# EAGLE library part MCP23018 (library microchip)
I/O Expander I2C Interface
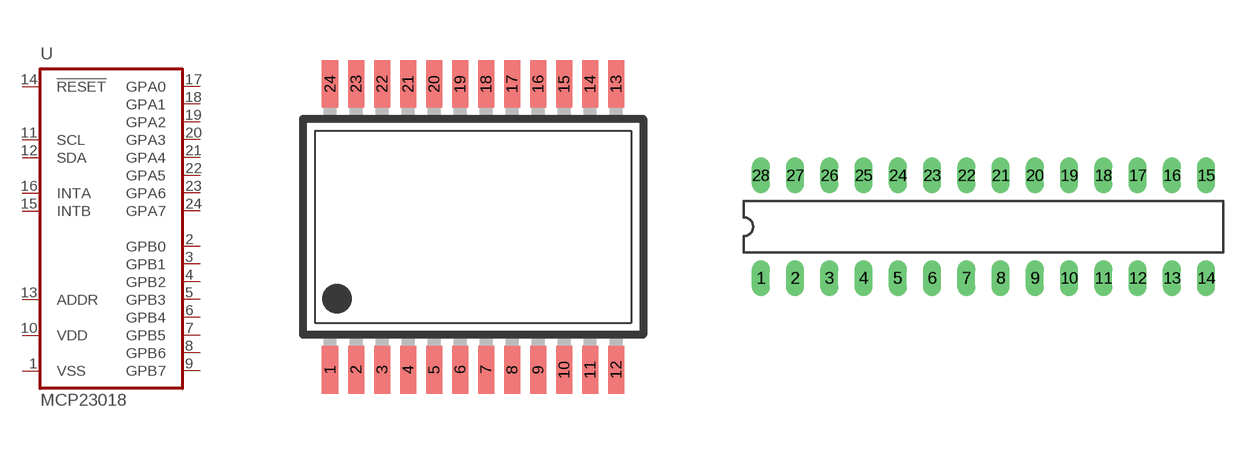
[diagram p135: symbol with the pads of SSOP24W; footprints SSOP24W, DIL28-3]

Designator prefix U

## MCP23018SS  [SSOP24W]
1  VSS  pwr
2  GPB0
3  GPB1
4  GPB2
5  GPB3
6  GPB4
7  GPB5
8  GPB6
9  GPB7
10  VDD  pwr
11  SCL  in
12  SDA  oc
13  ADDR  in
14  !RESET  in
15  INTB  out
16  INTA  out
17  GPA0
18  GPA1
19  GPA2
20  GPA3
21  GPA4
22  GPA5
23  GPA6
24  GPA7

## MCP23018SP  [DIL28-3]
1  VSS  pwr
3  GPB0
4  GPB1
5  GPB2
6  GPB3
7  GPB4
8  GPB5
9  GPB6
10  GPB7
11  VDD  pwr
12  SCL  in
13  SDA  oc
15  ADDR  in
16  !RESET  in
18  INTB  out
19  INTA  out
20  GPA0
21  GPA1
22  GPA2
23  GPA3
24  GPA4
25  GPA5
26  GPA6
27  GPA7

## MCP23018SO  [SO28W]
Pads as for DIL28-3

## Footprint SSOP24W (pad centres in mm)
Small Shrink Outline Package JDEC MO-150, 5.3 mm body
smd 0.4 x 1.2: 1 -3.575,-3.575; 2 -2.925,-3.575; 3 -2.275,-3.575; 4 -1.625,-3.575; 5 -0.975,-3.575; 6 -0.325,-3.575; 7 0.325,-3.575; 8 0.975,-3.575; 9 1.625,-3.575; 10 2.275,-3.575; 11 2.925,-3.575; 12 3.575,-3.575; 13 3.575,3.575; 14 2.925,3.575; 15 2.275,3.575; 16 1.625,3.575; 17 0.975,3.575; 18 0.325,3.575; 19 -0.325,3.575; 20 -0.975,3.575; 21 -1.625,3.575; 22 -2.275,3.575; 23 -2.925,3.575; 24 -3.575,3.575

## Footprint DIL28-3 (pad centres in mm)
Dual In Line Package Small
drill 0.813 long: 1 -16.51,-3.81; 2 -13.97,-3.81; 3 -11.43,-3.81; 4 -8.89,-3.81; 5 -6.35,-3.81; 6 -3.81,-3.81; 7 -1.27,-3.81; 8 1.27,-3.81; 9 3.81,-3.81; 10 6.35,-3.81; 11 8.89,-3.81; 12 11.43,-3.81; 13 13.97,-3.81; 14 16.51,-3.81; 15 16.51,3.81; 16 13.97,3.81; 17 11.43,3.81; 18 8.89,3.81; 19 6.35,3.81; 20 3.81,3.81; 21 1.27,3.81; 22 -1.27,3.81; 23 -3.81,3.81; 24 -6.35,3.81; 25 -8.89,3.81; 26 -11.43,3.81; 27 -13.97,3.81; 28 -16.51,3.81

## Footprint SO28W (pad centres in mm)
SMALL OUTLINE INTEGRATED CIRCUIT wide body 7.5 mm/JEDEC MO-119AB
smd 0.6 x 2.2: 1 -8.255,-4.6; 2 -6.985,-4.6; 3 -5.715,-4.6; 4 -4.445,-4.6; 5 -3.175,-4.6; 6 -1.905,-4.6; 7 -0.635,-4.6; 8 0.635,-4.6; 9 1.905,-4.6; 10 3.175,-4.6; 11 4.445,-4.6; 12 5.715,-4.6; 13 6.985,-4.6; 14 8.255,-4.6; 15 8.255,4.6; 16 6.985,4.6; 17 5.715,4.6; 18 4.445,4.6; 19 3.175,4.6; 20 1.905,4.6; 21 0.635,4.6; 22 -0.635,4.6; 23 -1.905,4.6; 24 -3.175,4.6; 25 -4.445,4.6; 26 -5.715,4.6; 27 -6.985,4.6; 28 -8.255,4.6